# EAGLE library part MPQ4480 (library wheat)
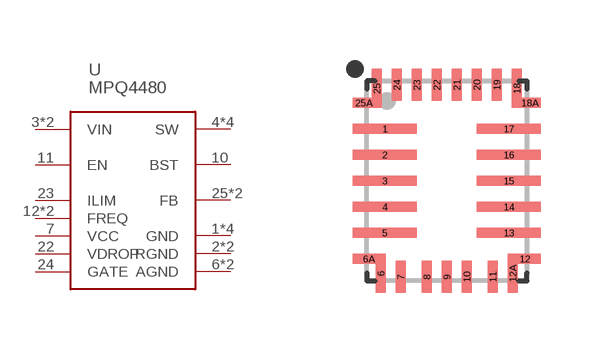
[diagram p264: symbol with the pads of QFN_25_4X5_MPS; footprint QFN_25_4X5_MPS]

Designator prefix U

## MPQ4480  [QFN_25_4X5_MPS]
1  GND
2  RGND
3  VIN
4  SW
5  GND
6  AGND
6A  AGND
7  VCC
8  SW
9  SW
10  BST
11  EN
12  FREQ
12A  FREQ
13  GND
14  SW
15  VIN
16  RGND
17  GND
22  VDROP
23  ILIM
24  GATE
25  FB
25A  FB

## Footprint QFN_25_4X5_MPS (pad centres in mm)
smd 1.6 x 0.25: 1 -1.55,1.3; 2 -1.55,0.65; 3 -1.55,0; 4 -1.55,-0.65; 5 -1.55,-1.3; 13 1.55,-1.3; 14 1.55,-0.65; 15 1.55,0; 16 1.55,0.65; 17 1.55,1.3
smd 0.25 x 0.975: 6 -1.65,-2.312; 12A 1.65,-2.312; 18 1.75,2.312; 25 -1.75,2.312
smd 0.8 x 0.25: 6A -1.95,-1.95; 12 1.95,-1.95
smd 0.25 x 0.8: 7 -1.15,-2.4; 8 -0.5,-2.4; 9 0,-2.4; 10 0.5,-2.4; 11 1.15,-2.4; 19 1.25,2.4; 20 0.75,2.4; 21 0.25,2.4; 22 -0.25,2.4; 23 -0.75,2.4; 24 -1.25,2.4
smd 0.55 x 0.25: 18A 2.075,1.95; 25A -2.075,1.95